# Altium footprint library Flex-DRZ12-1950X2450TP.PcbLib: 1 footprints
Each footprint in its own frame and in the unit in brackets; x right, y up, seen from the top. Pads: shape width x height; smd on the part's side, far side on the other; paste and mask are expansions set on the pad; w line width, h text height; cw(c..) or ccw(c..) is an arc to the next point about the centre after c.
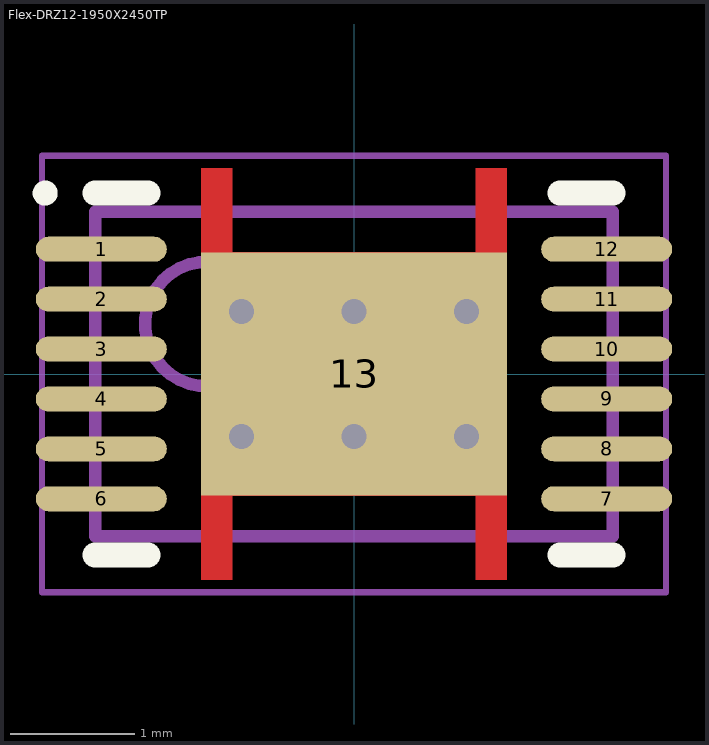
[diagram p0: the footprint, top view; thin cyan lines are the x and y axes]

## Flex-DRZ12-1950X2450TP [mm] "SON, 12-Leads, Body 4x2.5mm, Pitch 0.4mm, Thermal Pad 1.95x2.45mm, TI Recommended"
height 1
pads (13):
  oval 1.05x0.2 smd paste-0.1 mask-99: 1(-2.025,1) 2(-2.025,0.6) 3(-2.025,0.2) 4(-2.025,-0.2) 5(-2.025,-0.6) 6(-2.025,-1) 7(2.025,-1) 8(2.025,-0.6) 9(2.025,-0.2) 10(2.025,0.2) 11(2.025,0.6) 12(2.025,1)
  rect 2.45x1.95 smd paste-0.975 mask-99: 13(0,0)
via 0.9,-0.5 diameter 0.5 hole 0.2
via 0.9,0.5 diameter 0.5 hole 0.2
via -0.9,0.5 diameter 0.5 hole 0.2
via 0,0.5 diameter 0.5 hole 0.2
via -0.9,-0.5 diameter 0.5 hole 0.2
via 0,-0.5 diameter 0.5 hole 0.2
Top Layer:
  region: -1.225,-1.65 -1.225,1.65 -0.975,1.65 -0.975,0.975 0.975,0.975 0.975,1.65 1.225,1.65 1.225,-1.65 0.975,-1.65 0.975,-0.975 -0.975,-0.975 -0.975,-1.65
Top Overlay:
  circle w0.1: c-2.475,1.45 r0.05
  lines w0.2: -2.075,-1.45 -1.65,-1.45 ; -2.075,1.45 -1.65,1.45 ; 1.65,-1.45 2.075,-1.45 ; 1.65,1.45 2.075,1.45
Top Paste:
  rectangle: -1.1,0.1 -0.1,0.9
  region: 1.1,0.9 0.1,0.9 0.1,0.1 1.1,0.1
  region: 1.1,-0.1 0.1,-0.1 0.1,-0.9 1.1,-0.9
  rectangle: -1.1,-0.9 -0.1,-0.1
  lines w0.2: -2.275,-1 -1.675,-1 ; -2.275,-0.6 -1.675,-0.6 ; -2.275,-0.2 -1.675,-0.2 ; -2.275,0.2 -1.675,0.2 ; -2.275,0.6 -1.675,0.6 ; -2.275,1 -1.675,1 ; 1.675,-1 2.275,-1 ; 1.675,-0.6 2.275,-0.6 ; 1.675,-0.2 2.275,-0.2 ; 1.675,0.2 2.275,0.2 ; 1.675,0.6 2.275,0.6 ; 1.675,1 2.275,1
Top Solder:
  region: 1.528,-1.1 1.544,-1.178 1.588,-1.244 1.654,-1.288 1.732,-1.304 1.732,-1.3 2.257,-1.304 2.335,-1.288 2.401,-1.244 2.445,-1.178 2.461,-1.1 2.457,-1.1 2.461,1.1 2.445,1.178 2.401,1.244 2.335,1.288 2.257,1.304 2.257,1.3 1.732,1.304 1.654,1.288 1.588,1.244 1.544,1.178 1.528,1.1 1.532,1.1
  region: -2.257,-1.304 -2.335,-1.288 -2.401,-1.244 -2.445,-1.178 -2.461,-1.1 -2.457,-1.1 -2.461,1.1 -2.445,1.178 -2.401,1.244 -2.335,1.288 -2.257,1.304 -2.257,1.3 -1.732,1.304 -1.654,1.288 -1.588,1.244 -1.544,1.178 -1.528,1.1 -1.532,1.1 -1.528,-1.1 -1.544,-1.178 -1.588,-1.244 -1.654,-1.288 -1.732,-1.304 -1.732,-1.3
  region: -1.3,-1.1 -1.304,1.1 -1.288,1.178 -1.244,1.244 -1.178,1.288 -1.1,1.304 -1.1,1.3 1.1,1.304 1.178,1.288 1.244,1.244 1.288,1.178 1.304,1.1 1.3,1.1 1.304,-1.1 1.288,-1.178 1.244,-1.244 1.178,-1.288 1.1,-1.304 1.1,-1.3 -1.1,-1.304 -1.178,-1.288 -1.244,-1.244 -1.288,-1.178 -1.304,-1.1
Mechanical 13:
  circle w0.1: c-1.175,0.4 r0.5
  lines w0.1: -2.075,-1.3 -2.075,1.3 2.075,1.3 2.075,-1.3 -2.075,-1.3
Mechanical 15:
  lines w0.05: -2.5,-1.75 -2.5,1.75 2.5,1.75 2.5,-1.75 -2.5,-1.75
  lines w0.1: -0.5,0 0.5,0 ; 0,-0.5 0,0.5
3D body: height 1, standoff 0, extent -2.075,-1.3 2.075,1.3